# EAGLE library part AXK720147G (library MyLibrary)
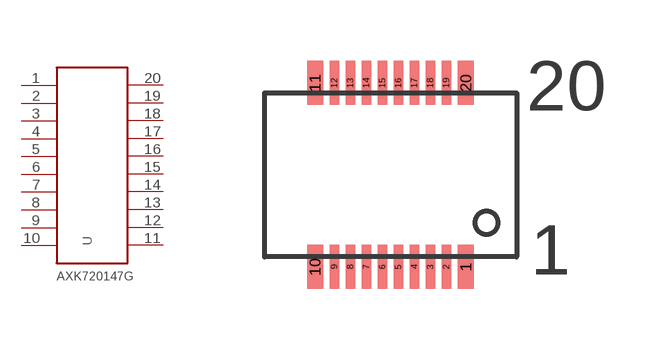
[diagram p12: symbol with the pads of AXK7,8-20; footprint AXK7,8-20]

Designator prefix -

## AXK720147G  [AXK7,8-20]
1  1
2  2
3  3
4  4
5  5
6  6
7  7
8  8
9  9
10  10
11  11
12  12
13  13
14  14
15  15
16  16
17  17
18  18
19  19
20  20

## Footprint AXK7,8-20 (pad centres in mm)
smd 0.4 x 1.1: 1 1.885,-2.3; 10 -1.885,-2.3; 11 -1.885,2.3; 20 1.885,2.3
smd 0.23 x 1.1: 2 1.4,-2.3; 3 1,-2.3; 4 0.6,-2.3; 5 0.2,-2.3; 6 -0.2,-2.3; 7 -0.6,-2.3; 8 -1,-2.3; 9 -1.4,-2.3; 12 -1.4,2.3; 13 -1,2.3; 14 -0.6,2.3; 15 -0.2,2.3; 16 0.2,2.3; 17 0.6,2.3; 18 1,2.3; 19 1.4,2.3